# Altium schematic symbol library HLib_schelib_Hien.SchLib: 44 symbols
Pins are listed as number, name and electrical type; pins without a type are passive.

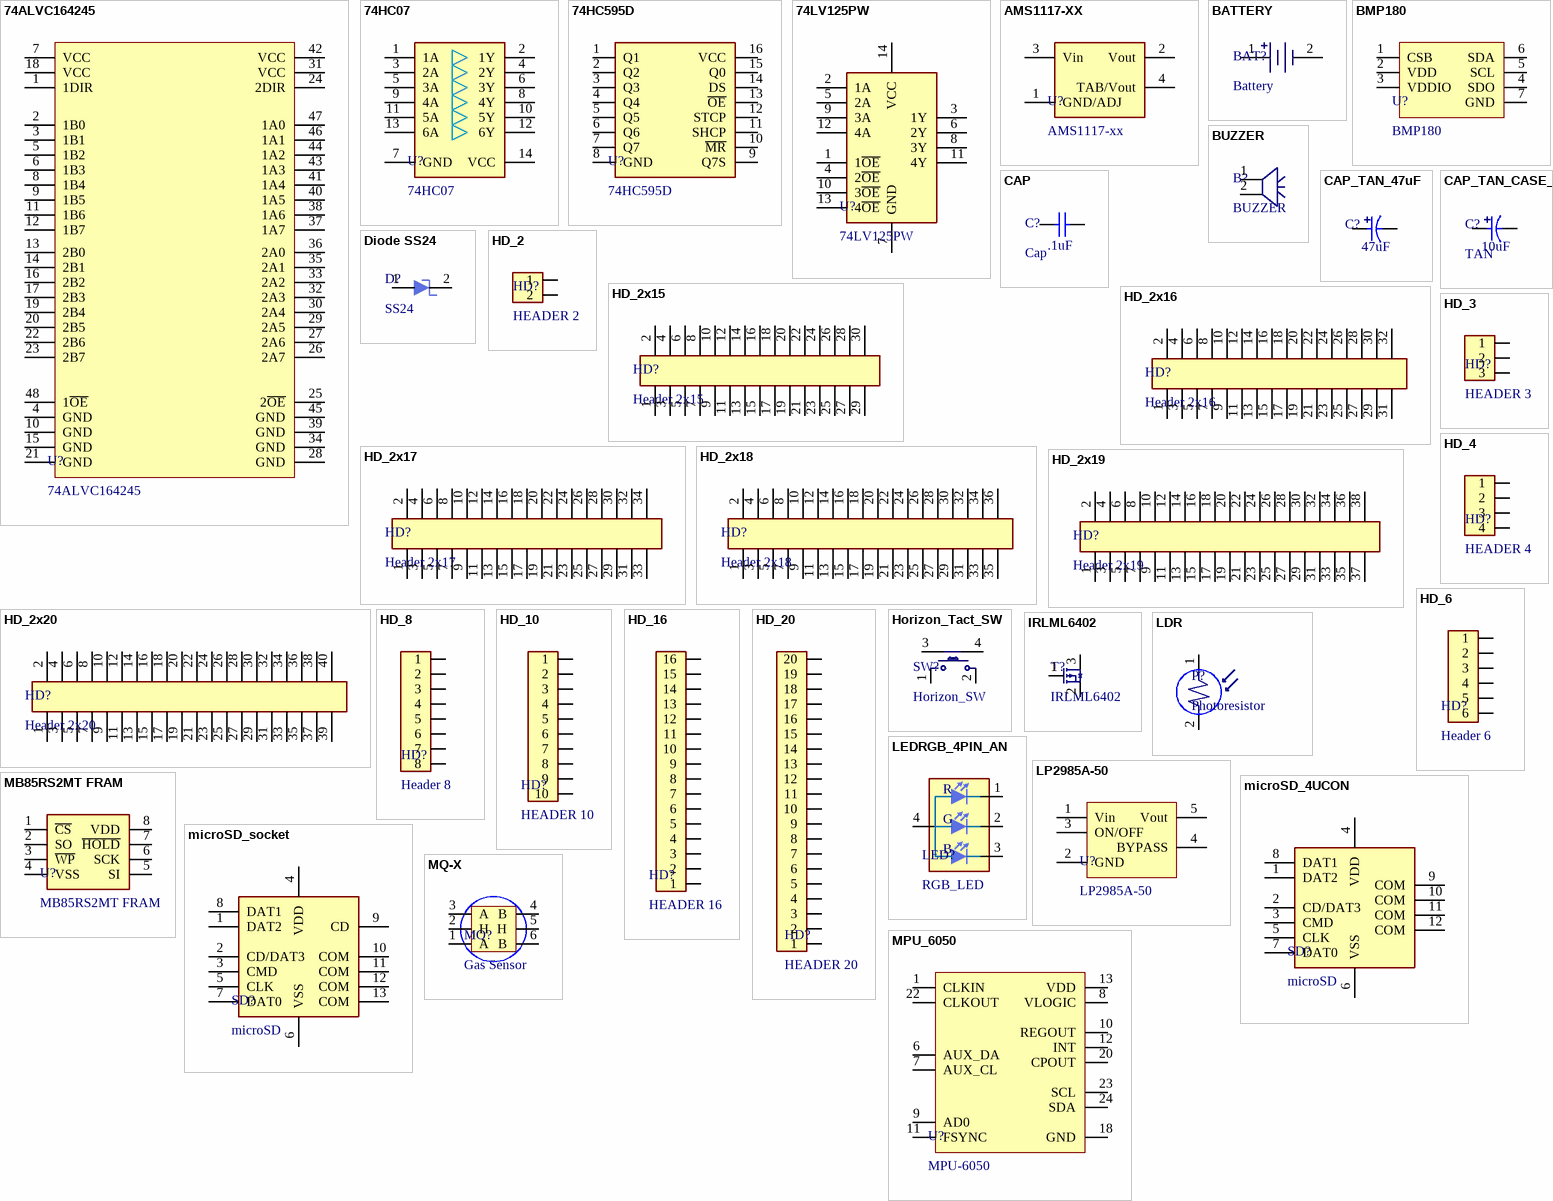
[diagram p0: symbols 74ALVC164245 to MQ-X]

## 74ALVC164245
designator U?
16-bit dual supply translating transceiver; 3-state
footprint SSOP_48 (SOT370-1)
pins: 1 1DIR, 2 1B0, 3 1B1, 4 GND, 5 1B2, 6 1B3, 7 VCC, 8 1B4, 9 1B5, 10 GND, 11 1B6, 12 1B7, 13 2B0, 14 2B1, 15 GND, 16 2B2, 17 2B3, 18 VCC, 19 2B4, 20 2B5, 21 GND, 22 2B6, 23 2B7, 24 2DIR, 25 2~{OE}, 26 2A7, 27 2A6, 28 GND, 29 2A5, 30 2A4, 31 VCC, 32 2A3, 33 2A2, 34 GND, 35 2A1, 36 2A0, 37 1A7, 38 1A6, 39 GND, 40 1A5, 41 1A4, 42 VCC, 43 1A3, 44 1A2, 45 GND, 46 1A1, 47 1A0, 48 1~{OE}

## 74HC07
designator U?
HEX BUFFER (OPEN DRAIN)
footprint SOIC 14
pins: 1 1A, 2 1Y, 3 2A, 4 2Y, 5 3A, 6 3Y, 7 GND, 8 4Y, 9 4A, 10 5Y, 11 5A, 12 6Y, 13 6A, 14 VCC

## 74HC595D
designator U?
8-bit serial-in, serial or parallel-outshift register with output latches
footprint SOIC 16
pins: 1 Q1, 2 Q2, 3 Q3, 4 Q4, 5 Q5, 6 Q6, 7 Q7, 8 GND, 9 Q7S, 10 ~{MR}, 11 SHCP, 12 STCP, 13 ~{OE}, 14 DS, 15 Q0, 16 VCC

## 74LV125PW
designator U?
Quad buffer/line driver; 3-state
footprint TSSOP14 (Surface-mount footprint TSSOP14)
pins: 1 1~{OE}, 2 1A, 3 1Y, 4 2~{OE}, 5 2A, 6 2Y, 7 GND, 8 3Y, 9 3A, 10 3~{OE}, 11 4Y, 12 4A, 13 4~{OE}, 14 VCC

## AMS1117-XX
designator U?, comment AMS1117-xx
1A LOW DROPOUT VOLTAGE REGULATOR
footprint SOT-223
pins: 1 GND/ADJ, 2 Vout, 3 Vin, 4 TAB/Vout

## BATTERY
designator BAT?, comment Battery
footprint SM_CR1220 (Surface-mount battery holder CR1220)
pins: 1 POS, 2 NAG

## BMP180
designator U?
Bosch's Digital pressure sensor
footprint LGA-7 (LGA 7pins 3.6x3.8x0.93 (mm))
pins: 1 CSB, 2 VDD, 3 VDDIO, 4 SDO, 5 SCL, 6 SDA, 7 GND

## BUZZER
designator B?
footprint BUZZER
pins: 1, 2

## CAP
designator C?, comment Cap
Capacitor
footprint SM_0805_C_CERAMIC (SM capacitor)
pins: 1, 2
text: .1uF

## CAP_TAN_47uF
designator C?, comment CAP  (value not drawn)
TANTALUM CASE C
footprint SM_2312_TAN
pins: 1, 2
text: 47uF

## CAP_TAN_CASE_A
designator C?, comment TAN
CAP TAN CASE A
footprint SM_1206_TAN (Tantalum 1206)
pins: 1, 2
text: 10uF

## Diode SS24
designator D?, comment SS24
DIODE SCHOTTKY
footprint DO-214AC
pins: 1 A, 2 K

## HD_2
designator HD?, comment HEADER 2
Header single row 2 pins
footprint HD_MALE_2
pins: 1, 2

## HD_2x15
designator HD?, comment Header 2x15
Double header 2x15pin, 2.54mm
footprint HD_male_2x15
footprint HD_female_2x15
pins: 1, 2, 3, 4, 5, 6, 7, 8, 9, 10, 11, 12, 13, 14, 15, 16, 17, 18, 19, 20, 21, 22, 23, 24, 25, 26, 27, 28, 29, 30

## HD_2x16
designator HD?, comment Header 2x16
Double header 2x16pin, 2.54mm
footprint HD_male_2x16
footprint HD_female_2x16
pins: 1, 2, 3, 4, 5, 6, 7, 8, 9, 10, 11, 12, 13, 14, 15, 16, 17, 18, 19, 20, 21, 22, 23, 24, 25, 26, 27, 28, 29, 30, 31, 32

## HD_2x17
designator HD?, comment Header 2x17
Double header 2x17pin, 2.54mm
footprint HD_male_2x17
footprint HD_female_2x17
pins: 1, 2, 3, 4, 5, 6, 7, 8, 9, 10, 11, 12, 13, 14, 15, 16, 17, 18, 19, 20, 21, 22, 23, 24, 25, 26, 27, 28, 29, 30, 31, 32, 33, 34

## HD_2x18
designator HD?, comment Header 2x18
Double header 2x18pin, 2.54mm
footprint HD_male_2x18
footprint HD_female_2x18
pins: 1, 2, 3, 4, 5, 6, 7, 8, 9, 10, 11, 12, 13, 14, 15, 16, 17, 18, 19, 20, 21, 22, 23, 24, 25, 26, 27, 28, 29, 30, 31, 32, 33, 34, 35, 36

## HD_2x19
designator HD?, comment Header 2x19
Double header 2x19pin, 2.54mm
footprint HD_male_2x19
footprint HD_female_2x19
pins: 1, 2, 3, 4, 5, 6, 7, 8, 9, 10, 11, 12, 13, 14, 15, 16, 17, 18, 19, 20, 21, 22, 23, 24, 25, 26, 27, 28, 29, 30, 31, 32, 33, 34, 35, 36, 37, 38

## HD_2x20
designator HD?, comment Header 2x20
Double header 2x20pin, 2.54mm
footprint HD_male_2x20
footprint HD_female_2x20
pins: 1, 2, 3, 4, 5, 6, 7, 8, 9, 10, 11, 12, 13, 14, 15, 16, 17, 18, 19, 20, 21, 22, 23, 24, 25, 26, 27, 28, 29, 30, 31, 32, 33, 34, 35, 36, 37, 38, 39, 40

## HD_3
designator HD?, comment HEADER 3
Header single row 3 pins
footprint HD_MALE_3
pins: 1, 2, 3

## HD_4
designator HD?, comment HEADER 4
Header single row 4 pins
footprint HD_MALE_4
pins: 1, 2, 3, 4

## HD_6
designator HD?, comment Header 6
Header single row 8 pins
footprint HD_MALE_6
pins: 1, 2, 3, 4, 5, 6

## HD_8
designator HD?, comment Header 8
Header single row 8 pins
footprint HD_MALE_8
pins: 1, 2, 3, 4, 5, 6, 7, 8

## HD_10
designator HD?, comment HEADER 10
Header single row 16 pins
footprint HD_MALE_10
pins: 1, 2, 3, 4, 5, 6, 7, 8, 9, 10

## HD_16
designator HD?, comment HEADER 16
Header single row 16 pins
footprint HD_MALE_16
pins: 1, 2, 3, 4, 5, 6, 7, 8, 9, 10, 11, 12, 13, 14, 15, 16

## HD_20
designator HD?, comment HEADER 20
Header single row 20 pins
footprint HD_MALE_20
pins: 1, 2, 3, 4, 5, 6, 7, 8, 9, 10, 11, 12, 13, 14, 15, 16, 17, 18, 19, 20

## Horizon_Tact_SW
designator SW?, comment Horizon_SW
Horizon tact switch
footprint Horizon_SW_4pin_round (Horizon tact switch 4pin round button)
footprint Horizon_SW_4pin_rectangular (Horizon tact switch 4pin rectangular button)
pins: 1, 2, 3, 4

## IRLML6402
designator T?
Trans P-chanel MOSFET
footprint SOT_23
pins: 1 G, 2 S, 3 D

## LDR
designator P?, comment Photoresistor
Light Dependent Resistors
footprint LDR5mm (Light Dependent Resistors)
footprint LDR12mm
pins: 1, 2

## LEDRGB_4PIN_AN
designator LED?, comment RGB_LED
RGB led 4-pin, common Anode
footprint SM_0805_LEDRGB_4PIN (surface-mount RGB led 4pin, common Anode)
footprint RGB_DIP_ANODE
pins: 1 K, 2 K, 3 K, 4 A
text: R; G; B

## LP2985A-50
designator U?
150-mA LOW-NOISE LOW-DROPOUT REGULATOR WITH SHUTDOWN
footprint SOT23-DBV (5 pins SMD)
pins: 1 Vin, 2 GND, 3 ON/OFF, 4 BYPASS, 5 Vout

## MB85RS2MT FRAM
designator U?
FRAM
footprint FPT_8P_M08 (SOT8)
pins: 1 ~{CS}, 2 SO, 3 ~{WP}, 4 VSS, 5 SI, 6 SCK, 7 ~{HOLD}, 8 VDD

## microSD_4UCON
designator SD?, comment microSD
microSD_Socket_4UCON
footprint microSD_4UCON
pins: 1 DAT2, 2 CD/DAT3, 3 CMD, 4 VDD, 5 CLK, 6 VSS, 7 DAT0, 8 DAT1, 9 COM, 10 COM, 11 COM, 12 COM

## microSD_socket
designator SD?, comment microSD
tranflash uSD socket
footprint microSD (tranflash microSD socket)
pins: 1 DAT2, 2 CD/DAT3, 3 CMD, 4 VDD, 5 CLK, 6 VSS, 7 DAT0, 8 DAT1, 9 CD, 10 COM, 11 COM, 12 COM, 13 COM

## MPU_6050
designator U?, comment MPU-6050
Motion processing unit
footprint QFN-24 (24 Lead QFN (4x4x0.9) mm)
pins: 1 CLKIN, 6 AUX_DA, 7 AUX_CL, 8 VLOGIC, 9 AD0, 10 REGOUT, 11 FSYNC, 12 INT, 13 VDD, 18 GND, 20 CPOUT, 22 CLKOUT, 23 SCL, 24 SDA

## MQ-X
designator MQ?, comment Gas Sensor
Analog Gas Sensor
footprint MQ-X
pins: 1 A, 2 H, 3 A, 4 B, 5 H, 6 B

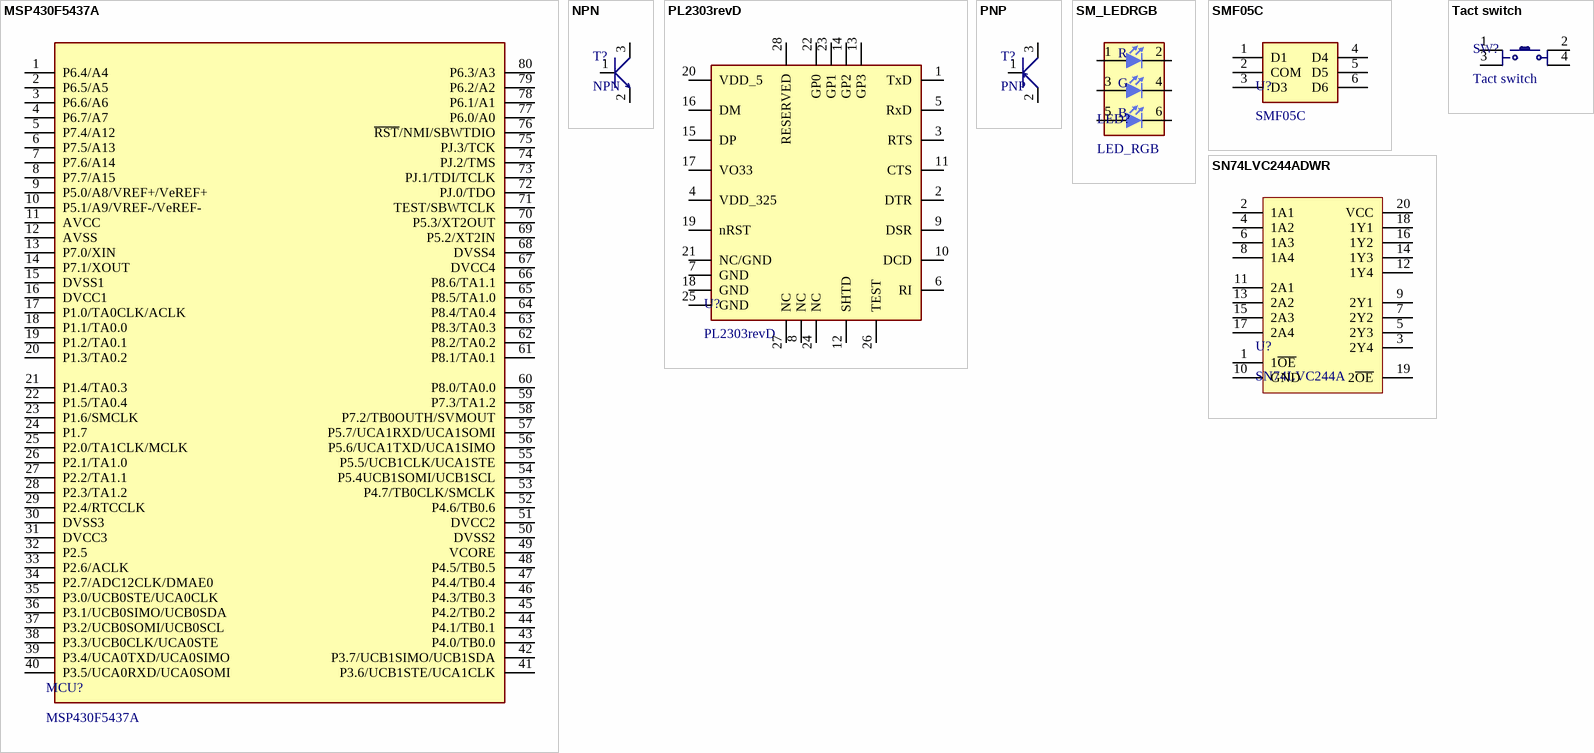
[diagram p1: symbols MSP430F5437A to Tact switch]

## MSP430F5437A
designator MCU?
MCU low-ultra-power 16 bits
footprint S-PQFP-G80
pins: 1 P6.4/A4, 2 P6.5/A5, 3 P6.6/A6, 4 P6.7/A7, 5 P7.4/A12, 6 P7.5/A13, 7 P7.6/A14, 8 P7.7/A15, 9 P5.0/A8/VREF+/VeREF+, 10 P5.1/A9/VREF-/VeREF-, 11 AVCC, 12 AVSS, 13 P7.0/XIN, 14 P7.1/XOUT, 15 DVSS1, 16 DVCC1, 17 P1.0/TA0CLK/ACLK, 18 P1.1/TA0.0, 19 P1.2/TA0.1, 20 P1.3/TA0.2, 21 P1.4/TA0.3, 22 P1.5/TA0.4, 23 P1.6/SMCLK, 24 P1.7, 25 P2.0/TA1CLK/MCLK, 26 P2.1/TA1.0, 27 P2.2/TA1.1, 28 P2.3/TA1.2, 29 P2.4/RTCCLK, 30 DVSS3, 31 DVCC3, 32 P2.5, 33 P2.6/ACLK, 34 P2.7/ADC12CLK/DMAE0, 35 P3.0/UCB0STE/UCA0CLK, 36 P3.1/UCB0SIMO/UCB0SDA, 37 P3.2/UCB0SOMI/UCB0SCL, 38 P3.3/UCB0CLK/UCA0STE, 39 P3.4/UCA0TXD/UCA0SIMO, 40 P3.5/UCA0RXD/UCA0SOMI, 41 P3.6/UCB1STE/UCA1CLK, 42 P3.7/UCB1SIMO/UCB1SDA, 43 P4.0/TB0.0, 44 P4.1/TB0.1, 45 P4.2/TB0.2, 46 P4.3/TB0.3, 47 P4.4/TB0.4, 48 P4.5/TB0.5, 49 VCORE, 50 DVSS2, 51 DVCC2, 52 P4.6/TB0.6, 53 P4.7/TB0CLK/SMCLK, 54 P5.4UCB1SOMI/UCB1SCL, 55 P5.5/UCB1CLK/UCA1STE, 56 P5.6/UCA1TXD/UCA1SIMO, 57 P5.7/UCA1RXD/UCA1SOMI, 58 P7.2/TB0OUTH/SVMOUT, 59 P7.3/TA1.2, 60 P8.0/TA0.0, 61 P8.1/TA0.1, 62 P8.2/TA0.2, 63 P8.3/TA0.3, 64 P8.4/TA0.4, 65 P8.5/TA1.0, 66 P8.6/TA1.1, 67 DVCC4, 68 DVSS4, 69 P5.2/XT2IN, 70 P5.3/XT2OUT, 71 TEST/SBWTCLK, 72 PJ.0/TDO, 73 PJ.1/TDI/TCLK, 74 PJ.2/TMS, 75 PJ.3/TCK, 76 ~{RST}/NMI/SBWTDIO, 77 P6.0/A0, 78 P6.1/A1, 79 P6.2/A2, 80 P6.3/A3

## NPN
designator T?
NPN transistor
footprint SOT_23
pins: 1, 2, 3

## PL2303revD
designator U?
USB to SERIAL brigde controller
footprint SSOP28 (SOP, 28 leads, 10.5x5.6mm)
pins: 1 TxD, 2 DTR, 3 RTS, 4 VDD_325, 5 RxD, 6 RI, 7 GND, 8 NC, 9 DSR, 10 DCD, 11 CTS, 12 SHTD, 13 GP3, 14 GP2, 15 DP, 16 DM, 17 VO33, 18 GND, 19 nRST, 20 VDD_5, 21 NC/GND, 22 GP0, 23 GP1, 24 NC, 25 GND, 26 TEST, 27 NC, 28 RESERVED

## PNP
designator T?
PNP transistor
footprint SOT_23
pins: 1, 2, 3

## SM_LEDRGB
designator LED?, comment LED_RGB
Surface-mount led RGB
footprint SM_0805_LEDRGB (Surface-mount led RGB)
pins: 1 A, 2 K, 3 A, 4 K, 5 A, 6 K
text: R; G; B

## SMF05C
designator U?
unidirectional ESD protection
footprint SC70_6L (ESD protection IC)
pins: 1 D1, 2 COM, 3 D3, 4 D4, 5 D5, 6 D6

## SN74LVC244ADWR
designator U?, comment SN74LVC244A
OCTAL BUFFER/DRIVER  WITH 3-STATE OUTPUTS
footprint SOIC 20
pins: 1 1~{OE}, 2 1A1, 3 2Y4, 4 1A2, 5 2Y3, 6 1A3, 7 2Y2, 8 1A4, 9 2Y1, 10 GND, 11 2A1, 12 1Y4, 13 2A2, 14 1Y3, 15 2A3, 16 1Y2, 17 2A4, 18 1Y1, 19 2~{OE}, 20 VCC

## Tact switch
designator SW?
footprint SM_Tact_SW (Surface-mount tact switch)
footprint SM_SW_Waterproof (Switch 4 pins waterproof)
footprint TACT_SW_DIP
footprint TACT_SW_12x12
pins: 1, 2, 3, 4